# Altium schematic symbol library Schlib5.0.SchLib: 3 symbols
Pins are listed as number, name and electrical type; pins without a type are passive.

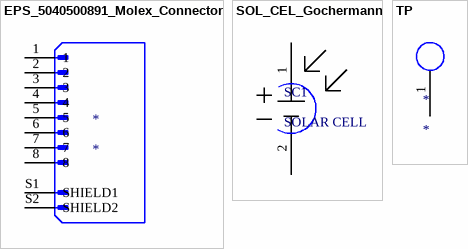
[diagram p0: symbols EPS_5040500891_Molex_Connector to TP]

## EPS_5040500891_Molex_Connector
designator *
footprint MOLEX_5040500891
pins: 1, 2, 3, 4, 5, 6, 7, 8, S1 SHIELD1, S2 SHIELD2

## SOL_CEL_Gochermann
designator SC1, comment SOLAR CELL
Solar Cell from Gochermann; InternalPart#: SC-3GA-3
footprint SOL_CEL_GOCHERMANN
pins: 1, 2

## TP
designator *
footprint TP
pins: 1